# Altium schematic symbol library IUD.SchLib: 13 symbols
Pins are listed as number, name and electrical type; pins without a type are passive.

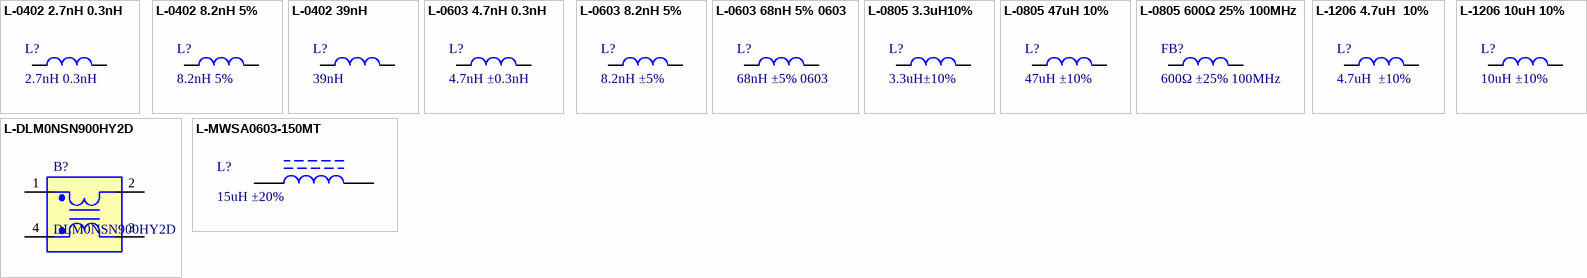
[diagram p0: symbols L-0402 2.7nH 0.3nH to L-MWSA0603-150MT]

## L-0402 2.7nH 0.3nH
designator L?, comment 2.7nH 0.3nH
贴片电感; ComponentLink1Description: 供应商链接; ComponentLink1URL: http://www.szlcsc.com/product/details_27872.html; Package: 0402; Supplier: LC; SuppliersPartNumber: C27123
footprint 0402_L
pins: 1, 2

## L-0402 8.2nH 5%
designator L?, comment 8.2nH 5%
贴片电感; ComponentLink1Description: 供应商链接; ComponentLink1URL: http://www.szlcsc.com/product/details_16890.html; Package: 0402; Supplier: LC; SuppliersPartNumber: C16208
footprint 0402_L
pins: 1, 2

## L-0402 39nH
designator L?, comment 39nH
贴片电感; ComponentLink1Description: 供应商链接; ComponentLink1URL: http://www.szlcsc.com/product/details_27187.html; Package: 0402; Supplier: LC; SuppliersPartNumber: C26443
footprint 0402_L
pins: 1, 2

## L-0603 4.7nH 0.3nH
designator L?, comment 4.7nH ±0.3nH
贴片电感; ComponentLink1Description: 供应商链接; ComponentLink1URL: http://www.szlcsc.com/product/details_1382.html; Package: 0603; Supplier: LC; SuppliersPartNumber: C1030
footprint 0603_L
pins: 1, 2

## L-0603 8.2nH 5%
designator L?, comment 8.2nH ±5%
贴片电感; ComponentLink1Description: 供应商链接; ComponentLink1URL: http://www.szlcsc.com/product/details_1384.html; Package: 0603; Supplier: LC; SuppliersPartNumber: C1032
footprint 0603_L
pins: 1, 2

## L-0603 68nH 5% 0603
designator L?, comment 68nH ±5% 0603
贴片电感; ComponentLink1Description: 供应商链接; ComponentLink1URL: http://www.szlcsc.com/product/details_14064.html; Package: 0603; Supplier: LC; SuppliersPartNumber: C13415
footprint 0603_L
pins: 1, 2

## L-0805 3.3uH10%
designator L?, comment 3.3uH±10%
贴片电感; ComponentLink1Description: 供应商链接; ComponentLink1URL: http://www.szlcsc.com/product/details_52738.html; Package: 0805; Supplier: LC; SuppliersPartNumber: C51725
footprint 0805_L
pins: 1, 2

## L-0805 47uH 10%
designator L?, comment 47uH ±10%
贴片电感; ComponentLink1Description: 供应商链接; ComponentLink1URL: http://www.szlcsc.com/product/details_14964.html; Package: 0805; Supplier: LC; SuppliersPartNumber: C14304
footprint 0805_L
pins: 1, 2

## L-0805 600Ω 25% 100MHz
designator FB?, comment 600Ω ±25% 100MHz
贴片磁珠; ComponentLink1Description: 供应商链接; ComponentLink1URL: http://www.szlcsc.com/product/details_1369.html; Package: 0805; Supplier: LC; SuppliersPartNumber: C1017
footprint 0805_L
pins: 1, 2

## L-1206 4.7uH  10%
designator L?, comment 4.7uH  ±10%
贴片电感; ComponentLink1Description: 供应商链接; ComponentLink1URL: http://www.szlcsc.com/product/details_1401.html; Package: 1206; Supplier: LC; SuppliersPartNumber: C1049
footprint 1206_L
pins: 1, 2

## L-1206 10uH 10%
designator L?, comment 10uH ±10%
贴片电感; ComponentLink1Description: 供应商链接; ComponentLink1URL: http://www.szlcsc.com/product/details_1403.html; Package: 1206; Supplier: LC; SuppliersPartNumber: C1051
footprint 1206_L
pins: 1, 2

## L-DLM0NSN900HY2D
designator B?, comment DLM0NSN900HY2D
Common Mode Chokes / Filters; Manufacturer_Name: Murata Electronics; Geometry.Height: 0.5mm; Manufacturer_Part_Number: DLM0NSN900HY2D; Mouser Part Number: 81-DLM0NSN900HY2D; Mouser Price/Stock: https://www.mouser.com/Search/Refine.aspx?Keyword=81-DLM0NSN900HY2D; RS Part Number: *; RS Price/Stock: *; Datasheet Link: https://www.murata.com/en-us/products/productdata/8799424610334/EFLD0009.pdf?1536847210000
footprint DLM0NSN900HY2D
footprint DLM11SN450HY2L
pins: 1, 2, 3, 4

## L-MWSA0603-150MT
designator L?, comment 15uH ±20%
功率电感; Package: 1206; Supplier: LC; SuppliersPartNumber: C1051; ComponentLink1Description: 产品销售接; ComponentLink1URL: http://item.szlcsc.com/143435.html; ComponentLink2Description: 公司链接; ComponentLink2URL: http://www.sunlordinc.com/PDFCatalog.aspx#WPN
footprint SMD_MWSA0603_15MT (顺络电子)
pins: 1, 2